# Altium schematic symbol library QUARTZ_RESONATOR.SchLib: 5 symbols
Pins are listed as number, name and electrical type; pins without a type are passive.

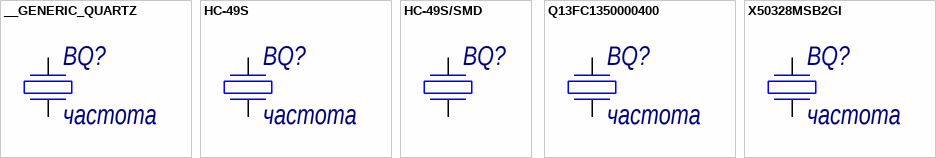
[diagram p0: symbols __GENERIC_QUARTZ to X50328MSB2GI]

## __GENERIC_QUARTZ
designator BQ?, comment частота
Кварцевый резонатор; ComponentName: HC-49; ComponentType: Кварцевый резонатор; ComponentDescription: =ComponentType+', '+Frequency+', '+Package; Frequency: частота
footprint HC-49S
footprint HC-49S/SMD
footprint SMD-5032_2P
pins: 1, 2

## HC-49S
designator BQ?, comment частота
Кварцевый резонатор; ComponentName: HC-49; ComponentType: Кварцевый резонатор; ComponentDescription: =ComponentType+', '+Frequency+', '+Package; Frequency: частота
footprint HC-49S
pins: 1, 2

## HC-49S/SMD
designator BQ?
Кварцевый резонатор; ComponentName: HC-49; ComponentType: Кварцевый резонатор; ComponentDescription: =ComponentType+', '+Frequency+', '+Package
footprint HC-49S/SMD
pins: 1, 2

## Q13FC1350000400
designator BQ?, comment частота
Кварцевый резонатор; ComponentName: Q13FC1350000400; ComponentType: Кварцевый резонатор; ComponentDescription: =ComponentType+', '+ComponentName+', '+Frequency+', '+Package; Frequency: частота
footprint SMD-3215_2P
pins: 1, 2

## X50328MSB2GI
designator BQ?, comment частота
Кварцевый резонатор; ComponentName: X50328MSB2GI; ComponentType: Кварцевый резонатор; ComponentDescription: =ComponentType+', '+Frequency+', '+Package; Frequency: частота
footprint SMD-5032_2P
pins: 1, 2